# EAGLE library part RESISTOR_ARRAY (library TEABOX-LIB)
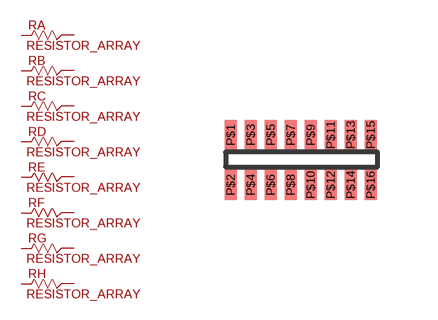
[diagram p21: symbol with the pads of RESISTOR_ARRAY_0402X8; footprint RESISTOR_ARRAY_0402X8]

Designator prefix R; gates A=RESISTOR B=RESISTOR C=RESISTOR D=RESISTOR E=RESISTOR F=RESISTOR G=RESISTOR H=RESISTOR

## RESISTOR_ARRAY  [RESISTOR_ARRAY_0402X8]
P$1  A:P$1
P$2  A:P$2
P$3  B:P$1
P$4  B:P$2
P$5  C:P$1
P$6  C:P$2
P$7  D:P$1
P$8  D:P$2
P$9  E:P$1
P$10  E:P$2
P$11  F:P$1
P$12  F:P$2
P$13  G:P$1
P$14  G:P$2
P$15  H:P$1
P$16  H:P$2

## Footprint RESISTOR_ARRAY_0402X8 (pad centres in mm)
smd 0.305 x 0.762: P$1 0.125,1.375; P$2 0.125,0.125; P$3 0.625,1.375; P$4 0.625,0.125; P$5 1.125,1.375; P$6 1.125,0.125; P$7 1.625,1.375; P$8 1.625,0.125; P$9 2.125,1.375; P$10 2.125,0.125; P$11 2.625,1.375; P$12 2.625,0.125; P$13 3.125,1.375; P$14 3.125,0.125; P$15 3.625,1.375; P$16 3.625,0.125